# EAGLE library part MCP3424 (library chipdesign2016)
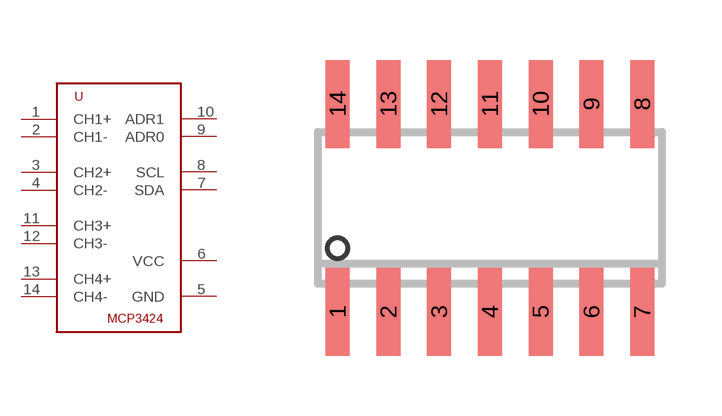
[diagram p5: symbol with the pads of SO-14; footprint SO-14]

Designator prefix -

## MCP3424  [SO-14]
1  CH1+
2  CH1-
3  CH2+
4  CH2-
5  GND  pwr
6  VCC  pwr
7  SDA
8  SCL  in
9  ADR0  in
10  ADR1  in
11  CH3+
12  CH3-
13  CH4+
14  CH4-

## Footprint SO-14 (pad centres in mm)
Small Outline Narrow Plastic Gull Wing 150-mil body, package type SL
smd 0.6 x 2.2: 1 -3.81,-2.6; 2 -2.54,-2.6; 3 -1.27,-2.6; 4 0,-2.6; 5 1.27,-2.6; 6 2.54,-2.6; 7 3.81,-2.6; 8 3.81,2.6; 9 2.54,2.6; 10 1.27,2.6; 11 0,2.6; 12 -1.27,2.6; 13 -2.54,2.6; 14 -3.81,2.6